# EAGLE library part AD8495 (library DashAndCAN library)
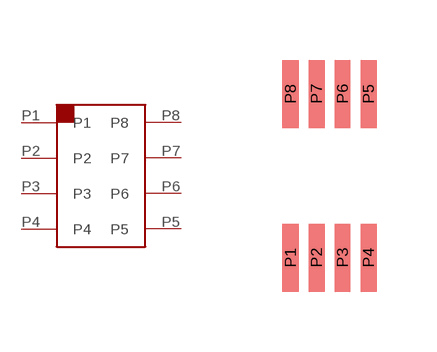
[diagram p3: symbol with the pads of 8MSOP; footprint 8MSOP]

Designator prefix -

## AD8495  [8MSOP]
P1  P1
P2  P2
P3  P3
P4  P4
P5  P5
P6  P6
P7  P7
P8  P8

## Footprint 8MSOP (pad centres in mm)
smd 0.4 x 1.7: P1 -0.975,-2.05; P2 -0.325,-2.05; P3 0.325,-2.05; P4 0.975,-2.05; P5 0.975,2.05; P6 0.325,2.05; P7 -0.325,2.05; P8 -0.975,2.05